# Altium footprint library PCB - LEADLESS - DFN - SKYWORKS DFN-8 SKY67183-396LF.PCBLIB: 1 footprints
Each footprint in its own frame and in the unit in brackets; x right, y up, seen from the top. Pads: shape width x height; smd on the part's side, far side on the other; paste and mask are expansions set on the pad; w line width, h text height; cw(c..) or ccw(c..) is an arc to the next point about the centre after c.
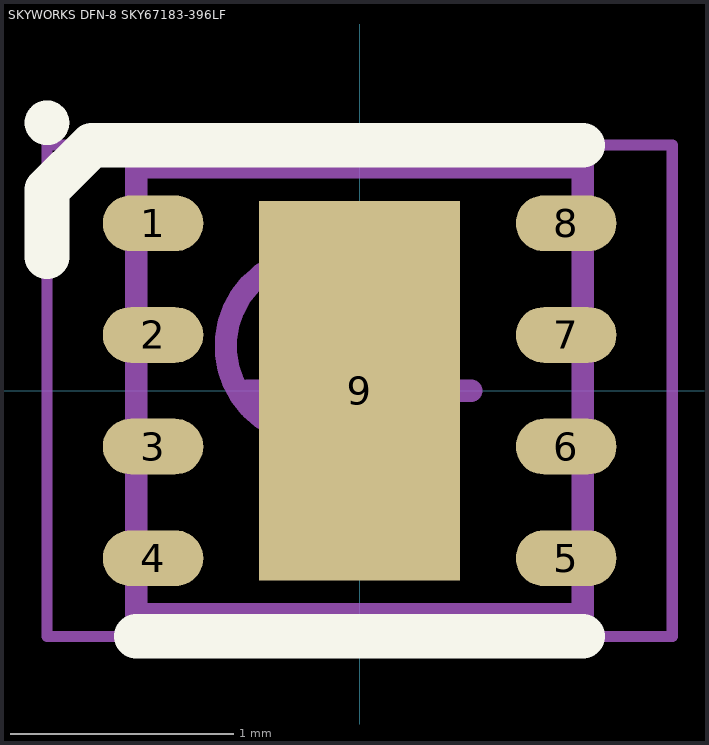
[diagram p0: the footprint, top view; thin cyan lines are the x and y axes]

## SKYWORKS DFN-8 SKY67183-396LF [mm] "DFN, 8-Leads, Body 2.00x2.00mm, Pitch 0.50mm, Thermal Pad 0.90x1.70mm, IPC Medium Density"
height 0.8
pads (9):
  oval 0.45x0.25 smd: 1(-0.925,0.75) 2(-0.925,0.25) 3(-0.925,-0.25) 4(-0.925,-0.75) 5(0.925,-0.75) 6(0.925,-0.25) 7(0.925,0.25) 8(0.925,0.75)
  rect 0.9x1.7 smd: 9(0,0)
Top Overlay:
  circle w0.1: c-1.4,1.2 r0.05
  lines w0.2: -1.4,0.6 -1.4,0.9 -1.2,1.1 1,1.1 ; -1,-1.1 1,-1.1
Mechanical 13:
  circle w0.1: c-0.2,0.2 r0.4
  lines w0.1: -1,-1 1,-1 1,1 -1,1 -1,-1
Mechanical 15:
  lines w0.05: -1.4,-1.1 1.4,-1.1 1.4,1.1 -1.4,1.1 -1.4,-1.1
  lines w0.1: -0.5,0 0.5,0 ; 0,-0.5 0,0.5
3D body "SKYWORKS DFN-8 SKY67183-396LF.step": height 0.8, standoff 0, extent -1.02,-1 1.02,1